# EAGLE library part 66200611022 (library Wire-to-Board (rev18a))
WR-MPC3 3.00mm Male Single Row Angled Header with Plastic Pegs, 6 Pins=>Code : Con_WTB_MPC3_1_PCB_66200611022 <http://katalog.we-online.de/media/thumbs2/eican/thb_Con_WTB_MPC3_1_PCB_6620xx11022_pf2.jpg> Details see: http://katalog.we-online.de/en/em/MPC3_3_00_SMT_MALE_SINGLE_ROW_ANGLED_HEADER_W_PLASTIC_PEGS_6620XX11022 Created 2014-06-06, Karrer Zheng 2014 (C) Würth Elektronik
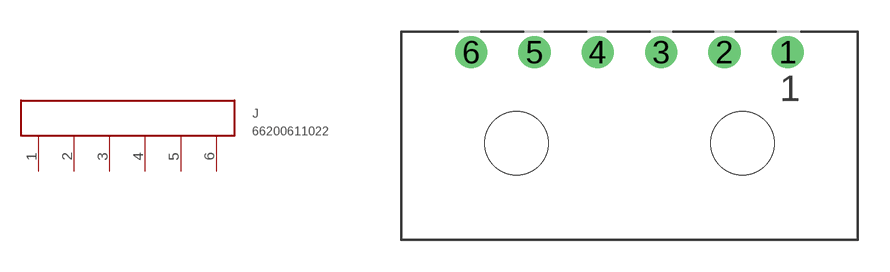
[diagram p325: symbol with the pads of 66200611022; footprint 66200611022]

Designator prefix J

## 66200611022  [66200611022]
1  1  pas
2  2  pas
3  3  pas
4  4  pas
5  5  pas
6  6  pas

## Footprint 66200611022 (pad centres in mm)
WR-MPC3 3.00mm Male Single Row Angled Header with Plastic Pegs, 6 Pins
drill 1.02: 1 7.5,4.32; 2 4.5,4.32; 3 1.5,4.32; 4 -1.5,4.32; 5 -4.5,4.32; 6 -7.5,4.32
hole 3 at 5.35,0
hole 3 at -5.35,0